# Altium integrated library TI Audio CODEC.IntLib: 199 symbols (part 10 of 17)
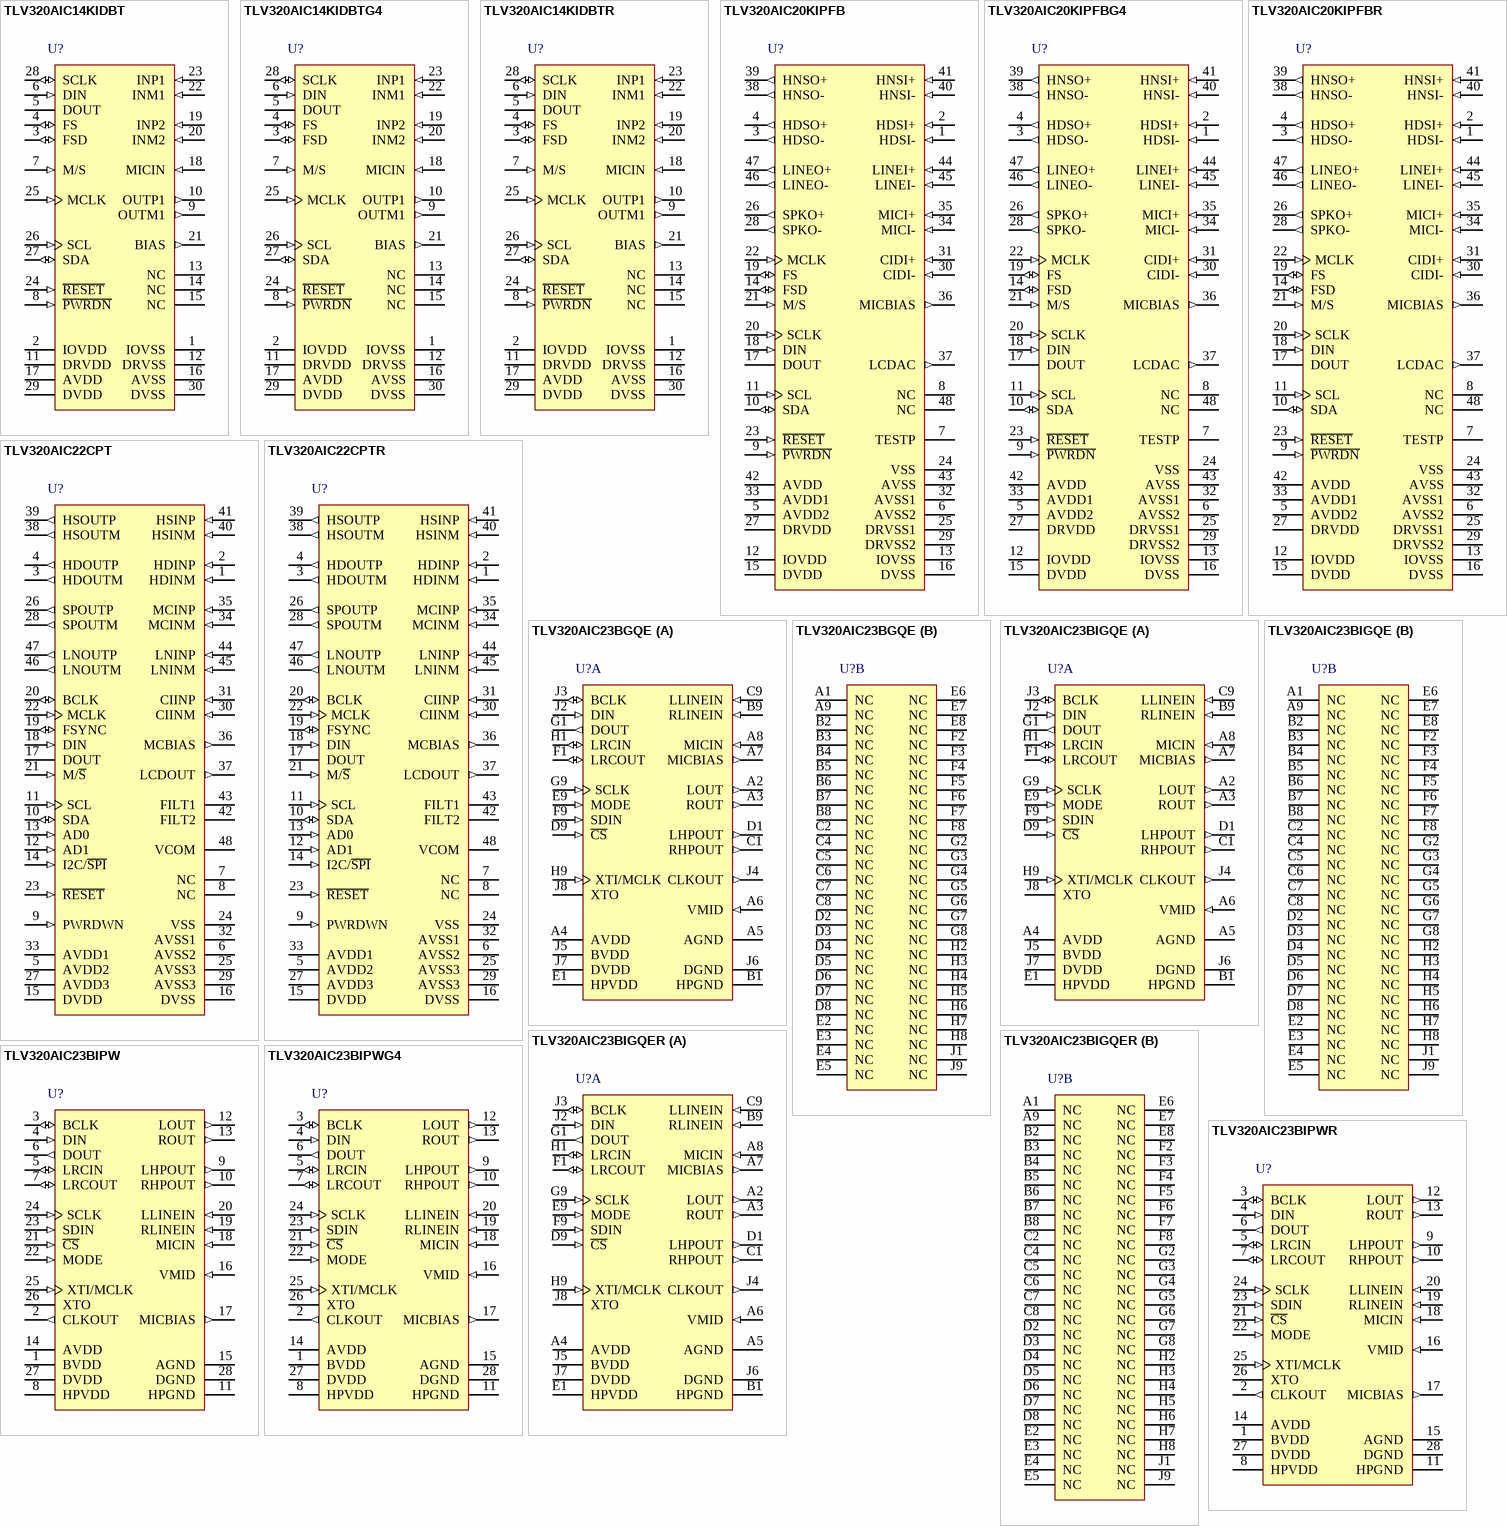
[diagram p22: symbols TLV320AIC14KIDBT to TLV320AIC23BIPWR]

## TLV320AIC14KIDBTG4
designator U?
Low-Power Mono Voice Band CODEC with 1 ADC and 1 DAC, 92 dB DAC SNR, -40 to 85 degC, 30 -pin TSSOP (DBT), Green (RoHS & no Sb/Br); Manufacturer: Texas Instruments; PartNumber: TLV320AIC14KIDBTG4; # ADCs (typ): 1; Battery Powered: TRUE; Control Interface: I2C, S2C; DAC SNR: 92; Digital Audio Interfaces: DSP, SMART TDM; Sampling Rate (Max) (kHz): 26; DatasheetVersion: SLWS115E; PackageVersion: Sep-2005; PackageReference: DBT30; PackageDescription: 30-Pin Thin Shrink Small Outline Package 0.5 mm Pitch; Supplier 1: Digi-Key; Supplier Part Number 1: TLV320AIC14KIDBTG4-ND; Supplier 2: Newark; Supplier Part Number 2: 67K8537; Supplier 3: Mouser; Supplier Part Number 3: 595-TLV320AIC14KIDG4; # DACs: 1; Mounting Technology: Surface Mount; Code_JEDEC: MO-153; ComponentLink1Description: Datasheet; ComponentLink1URL: http://www.ti.com/general/docs/lit/getliterature.tsp?genericPartNumber=TLV320AIC14K&fileType=pdf
footprint DBT30_N (TSSOP, 30-Leads, Body 7.8x4.4mm, Pitch 0.5mm, IPC Medium Density)
footprint DBT30_L (TSSOP, 30-Leads, Body 7.8x4.4mm, Pitch 0.5mm, IPC High Density)
footprint DBT30_M (TSSOP, 30-Leads, Body 7.8x4.4mm, Pitch 0.5mm, IPC Low Density)
pins: 1 IOVSS (power) "Digital I/O ground", 2 IOVDD (power) "Digital I/O power supply", 3 FSD (io) "Frame sync delayed output. The FSD output synchronizes a slave device to the frame sync of the master device. FSD is applied to the slave FS input and is the same duration as the master FS signal. This pin must be pulled low (See Datasheet)", 4 FS (io) "Frame sync. When FS goes low, DIN begins receiving data bits and DOUT begins transmitting data bits. In master mode, FS is internally generated. In slave mode, FS is externally generated.", 5 DOUT (hiz) "Data output. DOUT transmits the ADC output bits and registers data,and is synchronized to SCLK and FS. Data is sent out at the rising edge of SCLK. Outside data/control frame, DOUT is put in 3-state.", 6 DIN (in) "Data input. DIN receives the DAC input data and register data from the external DSP (digital signal processor) and is synchronized to SCLK  and FS. Data is latched at the falling edge of SCLK.", 7 M/S (in) "Master/slave select input. When M/S is high, the device is the master,and when low it is a slave.", 8 ~{PWRDN} (in) "Power down. When P\W\R\D\N\ is pulled low, the device goes into a power-down mode, the serial interface is disabled, and most of the high-speed clocks are disabled. However, all the register values are sustained and the (See Datasheet)", 9 OUTM1 (out) "Inverting output of the DAC. OUTM1 is functionally identical with and complementary to OUTP1. This differential output can drive a maximum load of 600 W. This output can also be used alone for single-ended operation.", 10 OUTP1 (out) "Noninverting output of the DAC. This differential output can drive a maximum load of 600 W. This output can also be used alone for single-ended operation.", 11 DRVDD (power) "Analog power supply for the 16-W drivers OUTP2 and OUTP3", 12 DRVSS (power) "Analog ground for the 16-W drivers OUTP2 and OUTP3", 13 NC "No connection", 14 NC "No connection", 15 NC "No connection", 16 AVSS (power) "Analog ground", 17 AVDD (power) "Analog power supply", 18 MICIN (in) "MIC preamplifier input. It must be connected to AVSS if not used.", 19 INP2 (in) "Noninverting analog input 2. It must be connected to AVSS if not used.", 20 INM2 (in) "Inverting analog input 2. It must be connected to AVSS if not used.", 21 BIAS (out) "Bias output voltage is software selectable between 1.35 V and 2.35 V.Its output current is 5 mA.", 22 INM1 (in) "Inverting analog input 1. It must be connected to AVSS if not used.", 23 INP1 (in) "Noninverting analog input 1. It must be connected to AVSS if not used.", 24 ~{RESET} (in) "Hardware reset. The reset function is provided to initialize all of the internal registers to their default values. The serial port is configured to the default state accordingly.", 25 MCLK (in) "Master clock. MCLK derives the internal clocks of the sigma-delta analog interface circuit.", 26 SCL (in) "Programmable host port (I2C or S2C) clock input.", 27 SDA (io) "Programmable host port (I2C or S2C) data line.", 28 SCLK (io) "Shift clock. SCLK signal clocks serial data into DIN and out of DOUT during the frame-sync interval. When configured as an output (M/S high), SCLK is generated internally by multiplying the frame-sync signal frequency by 16 (See Datasheet)", 29 DVDD (power) "Digital power supply", 30 DVSS (power) "Digital ground"

## TLV320AIC14KIDBTR
designator U?
Low-Power Mono Voice Band CODEC with 1 ADC and 1 DAC, 92 dB DAC SNR, -40 to 85 degC, 30-pin TSSOP (DBT), Green (RoHS & no Sb/Br); Manufacturer: Texas Instruments; PartNumber: TLV320AIC14KIDBTR; # ADCs (typ): 1; Battery Powered: TRUE; Control Interface: I2C, S2C; DAC SNR: 92; Digital Audio Interfaces: DSP, SMART TDM; Sampling Rate (Max) (kHz): 26; DatasheetVersion: SLWS115E; PackageVersion: Sep-2005; PackageReference: DBT30; PackageDescription: 30-Pin Thin Shrink Small Outline Package 0.5 mm Pitch; Supplier 1: Digi-Key; Supplier Part Number 1: TLV320AIC14KIDBTR-ND; Supplier 2: Newark; Supplier Part Number 2: 63K6492; Supplier 3: Mouser; Supplier Part Number 3: 595-TLV320AIC14KIBTR; # DACs: 1; Mounting Technology: Surface Mount; Code_JEDEC: MO-153; ComponentLink1Description: Datasheet; ComponentLink1URL: http://www.ti.com/general/docs/lit/getliterature.tsp?genericPartNumber=TLV320AIC14K&fileType=pdf
footprint DBT30_N (TSSOP, 30-Leads, Body 7.8x4.4mm, Pitch 0.5mm, IPC Medium Density)
footprint DBT30_L (TSSOP, 30-Leads, Body 7.8x4.4mm, Pitch 0.5mm, IPC High Density)
footprint DBT30_M (TSSOP, 30-Leads, Body 7.8x4.4mm, Pitch 0.5mm, IPC Low Density)
pins: 1 IOVSS (power) "Digital I/O ground", 2 IOVDD (power) "Digital I/O power supply", 3 FSD (io) "Frame sync delayed output. The FSD output synchronizes a slave device to the frame sync of the master device. FSD is applied to the slave FS input and is the same duration as the master FS signal. This pin must be pulled low (See Datasheet)", 4 FS (io) "Frame sync. When FS goes low, DIN begins receiving data bits and DOUT begins transmitting data bits. In master mode, FS is internally generated. In slave mode, FS is externally generated.", 5 DOUT (hiz) "Data output. DOUT transmits the ADC output bits and registers data,and is synchronized to SCLK and FS. Data is sent out at the rising edge of SCLK. Outside data/control frame, DOUT is put in 3-state.", 6 DIN (in) "Data input. DIN receives the DAC input data and register data from the external DSP (digital signal processor) and is synchronized to SCLK  and FS. Data is latched at the falling edge of SCLK.", 7 M/S (in) "Master/slave select input. When M/S is high, the device is the master,and when low it is a slave.", 8 ~{PWRDN} (in) "Power down. When P\W\R\D\N\ is pulled low, the device goes into a power-down mode, the serial interface is disabled, and most of the high-speed clocks are disabled. However, all the register values are sustained and the (See Datasheet)", 9 OUTM1 (out) "Inverting output of the DAC. OUTM1 is functionally identical with and complementary to OUTP1. This differential output can drive a maximum load of 600 W. This output can also be used alone for single-ended operation.", 10 OUTP1 (out) "Noninverting output of the DAC. This differential output can drive a maximum load of 600 W. This output can also be used alone for single-ended operation.", 11 DRVDD (power) "Analog power supply for the 16-W drivers OUTP2 and OUTP3", 12 DRVSS (power) "Analog ground for the 16-W drivers OUTP2 and OUTP3", 13 NC "No connection", 14 NC "No connection", 15 NC "No connection", 16 AVSS (power) "Analog ground", 17 AVDD (power) "Analog power supply", 18 MICIN (in) "MIC preamplifier input. It must be connected to AVSS if not used.", 19 INP2 (in) "Noninverting analog input 2. It must be connected to AVSS if not used.", 20 INM2 (in) "Inverting analog input 2. It must be connected to AVSS if not used.", 21 BIAS (out) "Bias output voltage is software selectable between 1.35 V and 2.35 V.Its output current is 5 mA.", 22 INM1 (in) "Inverting analog input 1. It must be connected to AVSS if not used.", 23 INP1 (in) "Noninverting analog input 1. It must be connected to AVSS if not used.", 24 ~{RESET} (in) "Hardware reset. The reset function is provided to initialize all of the internal registers to their default values. The serial port is configured to the default state accordingly.", 25 MCLK (in) "Master clock. MCLK derives the internal clocks of the sigma-delta analog interface circuit.", 26 SCL (in) "Programmable host port (I2C or S2C) clock input.", 27 SDA (io) "Programmable host port (I2C or S2C) data line.", 28 SCLK (io) "Shift clock. SCLK signal clocks serial data into DIN and out of DOUT during the frame-sync interval. When configured as an output (M/S high), SCLK is generated internally by multiplying the frame-sync signal frequency by 16 (See Datasheet)", 29 DVDD (power) "Digital power supply", 30 DVSS (power) "Digital ground"

## TLV320AIC20KIPFB
designator U?
Low-Power Stereo Voice Band CODEC with 8-ohm Speaker Amplifier, 1 ADC and 1 DAC, 92 dB DAC SNR, -40 to 85 degC, 48-pin TQFP (PFB), Green (RoHS & no Sb/Br); Manufacturer: Texas Instruments; PartNumber: TLV320AIC20KIPFB; # ADCs (typ): 1; Additional Features: 8 Ohm Speaker Amplifier; Battery Powered: TRUE; Control Interface: I2C, S2C; DAC SNR: 92; Digital Audio Interfaces: DSP, SMART TDM; Sampling Rate (Max) (kHz): 26; Speaker Amp Output Power(Max)(W): 0.25; Speaker Amp Type: Class-AB; DatasheetVersion: SLAS363D; PackageVersion: Jan-1998; PackageReference: PFB48; PackageDescription: 48-Pin Thin Plastic Quad Flat Pack 0.5 mm Pitch; Supplier 1: Digi-Key; Supplier Part Number 1: 296-17965-ND; Supplier 2: Newark; Supplier Part Number 2: 28K5675; Supplier 3: Mouser; Supplier Part Number 3: 595-TLV320AIC20KIPFB; # DACs: 1; Headphone Driver: TRUE; Speaker Amp Ouputs: 1; Mounting Technology: Surface Mount; Code_JEDEC: MS-026; ComponentLink1Description: Datasheet; ComponentLink1URL: http://www.ti.com/general/docs/lit/getliterature.tsp?genericPartNumber=TLV320AIC20K&fileType=pdf
footprint PFB48_N (Thin QFP, 48-Leads, Body 7x7mm, Pitch 0.5mm, IPC Medium Density)
footprint PFB48_L (Thin QFP, 48-Leads, Body 7x7mm, Pitch 0.5mm, IPC High Density)
footprint PFB48_M (Thin QFP, 48-Leads, Body 7x7mm, Pitch 0.5mm, IPC Low Density)
pins: 1 HDSI- (in) "Head-set input. The Head-set input can be treated similar to the Line-input pins", 2 HDSI+ (in) "Head-set input. The Head-set input can be treated similar to the Line-input pins", 3 HDSO- (out) "150-ohm output", 4 HDSO+ (out) "150-ohm output", 5 AVDD2 (power) "Analog power supply", 6 AVSS2 (power) "Analog ground", 7 TESTP (power) "Test pin. Should be connected to digital ground.", 8 NC "Not connected", 9 ~{PWRDN} (in) "Power down", 10 SDA (io) "I2C/S2C data", 11 SCL (in) "I2C/S2C clock", 12 IOVDD (power) "I/O power supply", 13 IOVSS (power) "I/O ground", 14 FSD (io) "Frame sync delayed", 15 DVDD (power) "Digital supply (1.8 V)", 16 DVSS (power) "Digital ground", 17 DOUT (hiz) "Data OUT", 18 DIN (in) "Data IN", 19 FS (io) "Frame sync", 20 SCLK (in) "Serial clock", 21 M/S (in) "Master slave select applied to CODEC1 only. CODEC2 is always a slave.", 22 MCLK (in) "Master clock", 23 ~{RESET} (in) "Reset", 24 VSS (power) "Device ground. Typically this should be connected to the Analog Ground.", 25 DRVSS1 (power) "Driver ground", 26 SPKO+ (out) "8-ohm output", 27 DRVDD (power) "Driver supply", 28 SPKO- (out) "8-ohm output", 29 DRVSS2 (power) "Driver ground", 30 CIDI- (in) "Caller-ID input. The Caller-ID input can be treated similar to the Line-input pins", 31 CIDI+ (in) "Caller-ID input. The Caller-ID input can be treated similar to the Line-input pins", 32 AVSS1 (power) "Analog ground", 33 AVDD1 (power) "Analog supply", 34 MICI- (in) "Microphone input", 35 MICI+ (in) "Microphone input", 36 MICBIAS (out) "Microphone bias", 37 LCDAC (out) "6-Bit DAC output may be used to drive LCDAC", 38 HNSO- (out) "150-ohm output", 39 HNSO+ (out) "150-ohm output", 40 HNSI- (in) "Hand-set input. The Hand-set input can be treated similar to the Line-input pins", 41 HNSI+ (in) "Hand-set input. The Hand-set input can be treated similar to the Line-input pins", 42 AVDD (power) "Analog supply", 43 AVSS (power) "Analog ground", 44 LINEI+ (in) "Line input", 45 LINEI- (in) "Line input", 46 LINEO- (out) "600-ohm output", 47 LINEO+ (out) "600-ohm output", 48 NC "Not connected"

## TLV320AIC20KIPFBG4
designator U?
Low-Power Stereo Voice Band CODEC with 8-ohm Speaker Amplifier, 1 ADC and 1 DAC, 92 dB DAC SNR, -40 to 85 degC, 48-pin TQFP (PFB), Green (RoHS & no Sb/Br); Manufacturer: Texas Instruments; PartNumber: TLV320AIC20KIPFBG4; # ADCs (typ): 1; Additional Features: 8 Ohm Speaker Amplifier; Battery Powered: TRUE; Control Interface: I2C, S2C; DAC SNR: 92; Digital Audio Interfaces: DSP, SMART TDM; Sampling Rate (Max) (kHz): 26; Speaker Amp Output Power(Max)(W): 0.25; Speaker Amp Type: Class-AB; DatasheetVersion: SLAS363D; PackageVersion: Jan-1998; PackageReference: PFB48; PackageDescription: 48-Pin Thin Plastic Quad Flat Pack 0.5 mm Pitch; Supplier 1: Digi-Key; Supplier Part Number 1: TLV320AIC20KIPFBG4-ND; Supplier 2: Newark; Supplier Part Number 2: 67K8539; Supplier 3: Mouser; Supplier Part Number 3: 595-TLV320AIC20KIPG4; # DACs: 1; Speaker Amp Ouputs: 1; Mounting Technology: Surface Mount; Code_JEDEC: MS-026; ComponentLink1Description: Datasheet; ComponentLink1URL: http://www.ti.com/general/docs/lit/getliterature.tsp?genericPartNumber=TLV320AIC20K&fileType=pdf
footprint PFB48_N (Thin QFP, 48-Leads, Body 7x7mm, Pitch 0.5mm, IPC Medium Density)
footprint PFB48_L (Thin QFP, 48-Leads, Body 7x7mm, Pitch 0.5mm, IPC High Density)
footprint PFB48_M (Thin QFP, 48-Leads, Body 7x7mm, Pitch 0.5mm, IPC Low Density)
pins: 1 HDSI- (in) "Head-set input. The Head-set input can be treated similar to the Line-input pins", 2 HDSI+ (in) "Head-set input. The Head-set input can be treated similar to the Line-input pins", 3 HDSO- (out) "150-ohm output", 4 HDSO+ (out) "150-ohm output", 5 AVDD2 (power) "Analog power supply", 6 AVSS2 (power) "Analog ground", 7 TESTP (power) "Test pin. Should be connected to digital ground.", 8 NC "Not connected", 9 ~{PWRDN} (in) "Power down", 10 SDA (io) "I2C/S2C data", 11 SCL (in) "I2C/S2C clock", 12 IOVDD (power) "I/O power supply", 13 IOVSS (power) "I/O ground", 14 FSD (io) "Frame sync delayed", 15 DVDD (power) "Digital supply (1.8 V)", 16 DVSS (power) "Digital ground", 17 DOUT (hiz) "Data OUT", 18 DIN (in) "Data IN", 19 FS (io) "Frame sync", 20 SCLK (in) "Serial clock", 21 M/S (in) "Master slave select applied to CODEC1 only. CODEC2 is always a slave.", 22 MCLK (in) "Master clock", 23 ~{RESET} (in) "Reset", 24 VSS (power) "Device ground. Typically this should be connected to the Analog Ground.", 25 DRVSS1 (power) "Driver ground", 26 SPKO+ (out) "8-ohm output", 27 DRVDD (power) "Driver supply", 28 SPKO- (out) "8-ohm output", 29 DRVSS2 (power) "Driver ground", 30 CIDI- (in) "Caller-ID input. The Caller-ID input can be treated similar to the Line-input pins", 31 CIDI+ (in) "Caller-ID input. The Caller-ID input can be treated similar to the Line-input pins", 32 AVSS1 (power) "Analog ground", 33 AVDD1 (power) "Analog supply", 34 MICI- (in) "Microphone input", 35 MICI+ (in) "Microphone input", 36 MICBIAS (out) "Microphone bias", 37 LCDAC (out) "6-Bit DAC output may be used to drive LCDAC", 38 HNSO- (out) "150-ohm output", 39 HNSO+ (out) "150-ohm output", 40 HNSI- (in) "Hand-set input. The Hand-set input can be treated similar to the Line-input pins", 41 HNSI+ (in) "Hand-set input. The Hand-set input can be treated similar to the Line-input pins", 42 AVDD (power) "Analog supply", 43 AVSS (power) "Analog ground", 44 LINEI+ (in) "Line input", 45 LINEI- (in) "Line input", 46 LINEO- (out) "600-ohm output", 47 LINEO+ (out) "600-ohm output", 48 NC "Not connected"

## TLV320AIC20KIPFBR
designator U?
Low-Power Stereo Voice Band CODEC with 8-ohm Speaker Amplifier, 1 ADC and 1 DAC, 92 dB DAC SNR, -40 to 85 degC, 48-pin TQFP (PFB), Green (RoHS & no Sb/Br); Manufacturer: Texas Instruments; PartNumber: TLV320AIC20KIPFBR; # ADCs (typ): 1; Additional Features: 8 Ohm Speaker Amplifier; Battery Powered: TRUE; Control Interface: I2C, S2C; DAC SNR: 92; Digital Audio Interfaces: DSP, SMART TDM; Sampling Rate (Max) (kHz): 26; Speaker Amp Output Power(Max)(W): 0.25; Speaker Amp Type: Class-AB; DatasheetVersion: SLAS363D; PackageVersion: Jan-1998; PackageReference: PFB48; PackageDescription: 48-Pin Thin Plastic Quad Flat Pack 0.5 mm Pitch; Supplier 1: Digi-Key; Supplier Part Number 1: TLV320AIC20KIPFBR-ND; Supplier 2: Newark; Supplier Part Number 2: 28K5676; Supplier 3: Mouser; Supplier Part Number 3: 595-TLV320AIC20KIPBR; # DACs: 1; Speaker Amp Ouputs: 1; Mounting Technology: Surface Mount; Code_JEDEC: MS-026; ComponentLink1Description: Datasheet; ComponentLink1URL: http://www.ti.com/general/docs/lit/getliterature.tsp?genericPartNumber=TLV320AIC20K&fileType=pdf
footprint PFB48_N (Thin QFP, 48-Leads, Body 7x7mm, Pitch 0.5mm, IPC Medium Density)
footprint PFB48_L (Thin QFP, 48-Leads, Body 7x7mm, Pitch 0.5mm, IPC High Density)
footprint PFB48_M (Thin QFP, 48-Leads, Body 7x7mm, Pitch 0.5mm, IPC Low Density)
pins: 1 HDSI- (in) "Head-set input. The Head-set input can be treated similar to the Line-input pins", 2 HDSI+ (in) "Head-set input. The Head-set input can be treated similar to the Line-input pins", 3 HDSO- (out) "150-ohm output", 4 HDSO+ (out) "150-ohm output", 5 AVDD2 (power) "Analog power supply", 6 AVSS2 (power) "Analog ground", 7 TESTP (power) "Test pin. Should be connected to digital ground.", 8 NC "Not connected", 9 ~{PWRDN} (in) "Power down", 10 SDA (io) "I2C/S2C data", 11 SCL (in) "I2C/S2C clock", 12 IOVDD (power) "I/O power supply", 13 IOVSS (power) "I/O ground", 14 FSD (io) "Frame sync delayed", 15 DVDD (power) "Digital supply (1.8 V)", 16 DVSS (power) "Digital ground", 17 DOUT (hiz) "Data OUT", 18 DIN (in) "Data IN", 19 FS (io) "Frame sync", 20 SCLK (in) "Serial clock", 21 M/S (in) "Master slave select applied to CODEC1 only. CODEC2 is always a slave.", 22 MCLK (in) "Master clock", 23 ~{RESET} (in) "Reset", 24 VSS (power) "Device ground. Typically this should be connected to the Analog Ground.", 25 DRVSS1 (power) "Driver ground", 26 SPKO+ (out) "8-ohm output", 27 DRVDD (power) "Driver supply", 28 SPKO- (out) "8-ohm output", 29 DRVSS2 (power) "Driver ground", 30 CIDI- (in) "Caller-ID input. The Caller-ID input can be treated similar to the Line-input pins", 31 CIDI+ (in) "Caller-ID input. The Caller-ID input can be treated similar to the Line-input pins", 32 AVSS1 (power) "Analog ground", 33 AVDD1 (power) "Analog supply", 34 MICI- (in) "Microphone input", 35 MICI+ (in) "Microphone input", 36 MICBIAS (out) "Microphone bias", 37 LCDAC (out) "6-Bit DAC output may be used to drive LCDAC", 38 HNSO- (out) "150-ohm output", 39 HNSO+ (out) "150-ohm output", 40 HNSI- (in) "Hand-set input. The Hand-set input can be treated similar to the Line-input pins", 41 HNSI+ (in) "Hand-set input. The Hand-set input can be treated similar to the Line-input pins", 42 AVDD (power) "Analog supply", 43 AVSS (power) "Analog ground", 44 LINEI+ (in) "Line input", 45 LINEI- (in) "Line input", 46 LINEO- (out) "600-ohm output", 47 LINEO+ (out) "600-ohm output", 48 NC "Not connected"

## TLV320AIC22CPT
designator U?
Dual VoIP CODEC with 1 ADC and 1 DAC, 78 dB DAC SNR, -40 to 85 degC, 48-pin LQFP (PT), Green (RoHS & no Sb/Br); Manufacturer: Texas Instruments; PartNumber: TLV320AIC22CPT; # ADCs (typ): 1; Battery Powered: TRUE; Control Interface: SPI, I2C; DAC SNR: 78; Digital Audio Interfaces: DSP; Sampling Rate (Max) (kHz): 16; DatasheetVersion: SPAS041B; PackageVersion: revC, Nov-1996; PackageReference: PT48; PackageDescription: 48-Pin Plastic Quad Flat Pack, 7 x 7 mm Body, 0.5 mm Pitch; Supplier 1: Digi-Key; Supplier Part Number 1: 296-13661-ND; Supplier 2: Digi-Key; Supplier Part Number 2: 296-13661-1-ND; Supplier 3: Farnell; Supplier Part Number 3: 1544023; Supplier 4: Newark; Supplier Part Number 4: 94M9898; Supplier 5: Newark; Supplier Part Number 5: 02E7161; Supplier 6: Mouser; Supplier Part Number 6: 595-TLV320AIC22CPT; # DACs: 1; Mounting Technology: Surface Mount; Code_JEDEC: MS-026; ComponentLink1Description: Datasheet; ComponentLink1URL: http://www.ti.com/general/docs/lit/getliterature.tsp?genericPartNumber=TLV320AIC22C&fileType=pdf
footprint PT48_N (Thin QFP, 48-Leads, Body 7x7mm, Pitch 0.5mm, IPC Medium Density)
footprint PT48_L (Thin QFP, 48-Leads, Body 7x7mm, Pitch 0.5mm, IPC High Density)
footprint PT48_M (Thin QFP, 48-Leads, Body 7x7mm, Pitch 0.5mm, IPC Low Density)
pins: 1 HDINM (in) "Headset amplifier analog inverting input. A connection between HDIN and HDOUT occurs, with selected echo gain, unless the echo gain is muted.", 2 HDINP (in) "Headset amplifier analog noninverting input.", 3 HDOUTM (out) "Inverting headset output. The HDOUTM terminal, together with the HDOUTP terminal form the differential output. With HDOUTP, a 150-ohm load can be driven differentially. HDOUTM can be used alone for single-ended operation.", 4 HDOUTP (out) "Noninverting headset output. HDOUTP can be used alone for single-ended operation. With HDOUTM, a 150-ohm load can be driven differentially.", 5 AVDD2 (power) "Analog power supply. Connect to AVDD1.", 6 AVSS2 (power) "Analog ground. Connect to AVSS1.", 7 NC "Reserved. Leave unconnected.", 8 NC "Reserved. Leave unconnected.", 9 PWRDWN (in) "Power down. PWRDWN is active high and when PWRDWN is pulled high, the device goes into a power-down mode that disables the output drivers and most of the high-speed clocks. The serial interface and I2C interface are enabled. (See Datasheet)", 10 SDA (io) "Bidirectional control data I/O line for the I2C interface. Data is clocked into and out of the device by SCL. Tie this terminal to DVDD when not used.", 11 SCL (in) "SCL is the serial control interface clock for the I2C interface and is used to clock control bits into and out of the device through the SDA terminal. Tie this terminal to DVDD when not used.", 12 AD1 (in) "Address. In I2C mode, AD1 is used with AD0 to form the lower two bits of the 7-bit I2C chip address. The upper five bits are fixed at 11100. AD1 is used in conjunction with AD0 to assign the two time slots for the codec in (See Datasheet)", 13 AD0 (in) "Address. In I2C mode, AD0 is used with AD1 to form the lower two bits of the 7-bit I2C chip address. The upper five bits are fixed at 11100. AD0 is used in conjunction with AD1 to assign the two time slots for the codec in (See Datasheet)", 14 I2C/~{SPI} (in) "I2C/serial-port interface select. Setting this terminal high allows the user to program the registers using the I2C interface. A low state configures the serial interface for control register programming during normal data (See Datasheet)", 15 DVDD (power) "Digital power supply", 16 DVSS (power) "Digital ground", 17 DOUT (hiz) "Data output. DOUT transmits the ADC output bits and the register data. It is synchronized to BCLK. Data is transmitted on the rising edge of BCLK in the two time slots that are specified by the AD1 and AD0 bits. DOUT is at (See Datasheet)", 18 DIN (in) "Data input. DIN receives the DAC input data and register data from the external DSP or controller and is synchronized to BCLK. Data is latched on the falling edge of BCLK in the two time slots that are specified by the AD1 (See Datasheet)", 19 FSYNC (io) "Frame synchronization. FSYNC indicates the beginning of a frame and the start of time slot 0. When FSYNC is sampled high on the rising edge of BCLK, the codec receives or transmits data in its specified time slot (specified (See Datasheet)", 20 BCLK (io) "Bit clock. BCLK clocks serial data into DIN and out of DOUT. When configured as an output (master mode), BCLK is generated internally by multiplying the frame-synchronization signal frequency by 256. When configured as an (See Datasheet)", 21 M/~{S} (in) "Master/slave select input. When M/S is high, the device is the master, and when it is low, it is a slave", 22 MCLK (in) "Master clock input. All internal clocks are derived from this clock. This clock typically is 32.768 MHz or 24.576 MHz.", 23 ~{RESET} (in) "Codec device reset. R\E\S\E\T\ initializes all device internal registers to default values when pulled low.", 24 VSS (power) "Internal substrate connection. VSS should be tied to AVSS1 and AVSS2.", 25 AVSS3 (power) "Analog ground for 8-ohm speaker driver. AVSS3 can be connected to AVSS1 and AVSS2. Because this signal requires large amounts of current, it is recommended that a separate PCB trace be run to this terminal and connected to (See Datasheet)", 26 SPOUTP (out) "Inverting analog output from 8-ohm speaker amplifier", 27 AVDD3 (power) "Analog power supply for 8-ohm speaker driver. AVDD3 can be connected to AVDD1 and AVDD2. Because this signal requires large amounts of current, it is recommended that a separate PCB trace be run to this terminal and (See Datasheet)", 28 SPOUTM (out) "Noninverting analog output from 8-ohm speaker amplifier", 29 AVSS3 (power) "Analog ground for 8-ohm speaker driver. AVSS3 can be connected to AVSS1 and AVSS2. Because this signal requires large amounts of current, it is recommended that a separate PCB trace be run to this terminal and connected to (See Datasheet)", 30 CIINM (in) "Caller ID amplifier analog inverting input", 31 CIINP (in) "Caller ID amplifier analog noninverting input", 32 AVSS1 (power) "Analog ground. Connect to AVSS2.", 33 AVDD1 (power) "Analog power supply. Connect to AVDD2.", 34 MCINM (in) "Microphone amplifier analog inverting input", 35 MCINP (in) "Microphone amplifier analog noninverting input", 36 MCBIAS (out) "MCBIAS provides a bias voltage and current to operate Electret microphones. The bias voltage is specified across the microphone at 2.5 V.", 37 LCDOUT (out) "4-bit DAC output voltage, programmed through the control interface. LCDOUT can be used to provide the bias voltage for an LCD display.", 38 HSOUTM (out) "Inverting handset output. The HSOUTM terminal, together with the HSOUTP terminal, forms the differential output. With HSOUTP, a 150-ohm load can be driven differentially. HSOUTM can be used alone for single-ended operation.", 39 HSOUTP (out) "Noninverting handset output. With HSOUTM, a 150-ohm load can be driven differentially. HSOUTP can be used alone for single-ended operation.", 40 HSINM (in) "Handset amplifier analog inverting input. A connection between HSIN and HSOUT occurs, with selected echo gain, unless the echo gain is muted.", 41 HSINP (in) "Handset amplifier analog noninverting input. A connection between the HSIN and HSOUT occurs, with programmed echo gain, unless the echo gain is muted.", 42 FILT2 "Reference filter node. FILT1 and FILT2 provide decoupling of the reference voltage. This reference is 0 V. The optimal capacitor value is 0.1 μF (ceramic) and is connected between FILT1 and FILT2", 43 FILT1 "Reference filter node. FILT1 and FILT2 provide decoupling of the reference voltage. This reference is 2.25 V. The optimal capacitor value is 0.1 μF (ceramic) and is connected between FILT1 and FILT2. FILT1 should not be used (See Datasheet)", 44 LNINP (in) "Line-port amplifier analog noninverting input.", 45 LNINM (in) "Line-port amplifier analog inverting input.", 46 LNOUTM (out) "Inverting line-port output. The LNOUTM terminal, together with the LNOUTP terminal, form the differential output. With LNOUTP, a 600-ohm load can be driven differentially. LNOUTM can be used alone for single-ended operation.", 47 LNOUTP (out) "Noninverting line-port output. With LNOUTM, a 600-ohm load can be driven differentially. LNOUTP can be used alone for single-ended operation.", 48 VCOM "VCOM provides a reference voltage of 1.5 V. The maximum source or sink current at this terminal is 2.5 mA"

## TLV320AIC22CPTR
designator U?
Dual VoIP CODEC with 1 ADC and 1 DAC, 78 dB DAC SNR, -40 to 85 degC, 48-pin LQFP (PT), Green (RoHS & no Sb/Br); Manufacturer: Texas Instruments; PartNumber: TLV320AIC22CPTR; # ADCs (typ): 1; Battery Powered: TRUE; Control Interface: SPI, I2C; DAC SNR: 78; Digital Audio Interfaces: DSP; Sampling Rate (Max) (kHz): 16; DatasheetVersion: SPAS041B; PackageVersion: revC, Nov-1996; PackageReference: PT48; PackageDescription: 48-Pin Plastic Quad Flat Pack, 7 x 7 mm Body, 0.5 mm Pitch; Supplier 1: Digi-Key; Supplier Part Number 1: TLV320AIC22CPTR-ND; Supplier 2: Newark; Supplier Part Number 2: 02E7162; Supplier 3: Mouser; Supplier Part Number 3: 595-TLV320AIC22CPTR; # DACs: 1; Mounting Technology: Surface Mount; Code_JEDEC: MS-026; ComponentLink1Description: Datasheet; ComponentLink1URL: http://www.ti.com/general/docs/lit/getliterature.tsp?genericPartNumber=TLV320AIC22C&fileType=pdf
footprint PT48_N (Thin QFP, 48-Leads, Body 7x7mm, Pitch 0.5mm, IPC Medium Density)
footprint PT48_L (Thin QFP, 48-Leads, Body 7x7mm, Pitch 0.5mm, IPC High Density)
footprint PT48_M (Thin QFP, 48-Leads, Body 7x7mm, Pitch 0.5mm, IPC Low Density)
pins: 1 HDINM (in) "Headset amplifier analog inverting input. A connection between HDIN and HDOUT occurs, with selected echo gain, unless the echo gain is muted.", 2 HDINP (in) "Headset amplifier analog noninverting input.", 3 HDOUTM (out) "Inverting headset output. The HDOUTM terminal, together with the HDOUTP terminal form the differential output. With HDOUTP, a 150-ohm load can be driven differentially. HDOUTM can be used alone for single-ended operation.", 4 HDOUTP (out) "Noninverting headset output. HDOUTP can be used alone for single-ended operation. With HDOUTM, a 150-ohm load can be driven differentially.", 5 AVDD2 (power) "Analog power supply. Connect to AVDD1.", 6 AVSS2 (power) "Analog ground. Connect to AVSS1.", 7 NC "Reserved. Leave unconnected.", 8 NC "Reserved. Leave unconnected.", 9 PWRDWN (in) "Power down. PWRDWN is active high and when PWRDWN is pulled high, the device goes into a power-down mode that disables the output drivers and most of the high-speed clocks. The serial interface and I2C interface are enabled. (See Datasheet)", 10 SDA (io) "Bidirectional control data I/O line for the I2C interface. Data is clocked into and out of the device by SCL. Tie this terminal to DVDD when not used.", 11 SCL (in) "SCL is the serial control interface clock for the I2C interface and is used to clock control bits into and out of the device through the SDA terminal. Tie this terminal to DVDD when not used.", 12 AD1 (in) "Address. In I2C mode, AD1 is used with AD0 to form the lower two bits of the 7-bit I2C chip address. The upper five bits are fixed at 11100. AD1 is used in conjunction with AD0 to assign the two time slots for the codec in (See Datasheet)", 13 AD0 (in) "Address. In I2C mode, AD0 is used with AD1 to form the lower two bits of the 7-bit I2C chip address. The upper five bits are fixed at 11100. AD0 is used in conjunction with AD1 to assign the two time slots for the codec in (See Datasheet)", 14 I2C/~{SPI} (in) "I2C/serial-port interface select. Setting this terminal high allows the user to program the registers using the I2C interface. A low state configures the serial interface for control register programming during normal data (See Datasheet)", 15 DVDD (power) "Digital power supply", 16 DVSS (power) "Digital ground", 17 DOUT (hiz) "Data output. DOUT transmits the ADC output bits and the register data. It is synchronized to BCLK. Data is transmitted on the rising edge of BCLK in the two time slots that are specified by the AD1 and AD0 bits. DOUT is at (See Datasheet)", 18 DIN (in) "Data input. DIN receives the DAC input data and register data from the external DSP or controller and is synchronized to BCLK. Data is latched on the falling edge of BCLK in the two time slots that are specified by the AD1 (See Datasheet)", 19 FSYNC (io) "Frame synchronization. FSYNC indicates the beginning of a frame and the start of time slot 0. When FSYNC is sampled high on the rising edge of BCLK, the codec receives or transmits data in its specified time slot (specified (See Datasheet)", 20 BCLK (io) "Bit clock. BCLK clocks serial data into DIN and out of DOUT. When configured as an output (master mode), BCLK is generated internally by multiplying the frame-synchronization signal frequency by 256. When configured as an (See Datasheet)", 21 M/~{S} (in) "Master/slave select input. When M/S is high, the device is the master, and when it is low, it is a slave", 22 MCLK (in) "Master clock input. All internal clocks are derived from this clock. This clock typically is 32.768 MHz or 24.576 MHz.", 23 ~{RESET} (in) "Codec device reset. R\E\S\E\T\ initializes all device internal registers to default values when pulled low.", 24 VSS (power) "Internal substrate connection. VSS should be tied to AVSS1 and AVSS2.", 25 AVSS3 (power) "Analog ground for 8-ohm speaker driver. AVSS3 can be connected to AVSS1 and AVSS2. Because this signal requires large amounts of current, it is recommended that a separate PCB trace be run to this terminal and connected to (See Datasheet)", 26 SPOUTP (out) "Inverting analog output from 8-ohm speaker amplifier", 27 AVDD3 (power) "Analog power supply for 8-ohm speaker driver. AVDD3 can be connected to AVDD1 and AVDD2. Because this signal requires large amounts of current, it is recommended that a separate PCB trace be run to this terminal and (See Datasheet)", 28 SPOUTM (out) "Noninverting analog output from 8-ohm speaker amplifier", 29 AVSS3 (power) "Analog ground for 8-ohm speaker driver. AVSS3 can be connected to AVSS1 and AVSS2. Because this signal requires large amounts of current, it is recommended that a separate PCB trace be run to this terminal and connected to (See Datasheet)", 30 CIINM (in) "Caller ID amplifier analog inverting input", 31 CIINP (in) "Caller ID amplifier analog noninverting input", 32 AVSS1 (power) "Analog ground. Connect to AVSS2.", 33 AVDD1 (power) "Analog power supply. Connect to AVDD2.", 34 MCINM (in) "Microphone amplifier analog inverting input", 35 MCINP (in) "Microphone amplifier analog noninverting input", 36 MCBIAS (out) "MCBIAS provides a bias voltage and current to operate Electret microphones. The bias voltage is specified across the microphone at 2.5 V.", 37 LCDOUT (out) "4-bit DAC output voltage, programmed through the control interface. LCDOUT can be used to provide the bias voltage for an LCD display.", 38 HSOUTM (out) "Inverting handset output. The HSOUTM terminal, together with the HSOUTP terminal, forms the differential output. With HSOUTP, a 150-ohm load can be driven differentially. HSOUTM can be used alone for single-ended operation.", 39 HSOUTP (out) "Noninverting handset output. With HSOUTM, a 150-ohm load can be driven differentially. HSOUTP can be used alone for single-ended operation.", 40 HSINM (in) "Handset amplifier analog inverting input. A connection between HSIN and HSOUT occurs, with selected echo gain, unless the echo gain is muted.", 41 HSINP (in) "Handset amplifier analog noninverting input. A connection between the HSIN and HSOUT occurs, with programmed echo gain, unless the echo gain is muted.", 42 FILT2 "Reference filter node. FILT1 and FILT2 provide decoupling of the reference voltage. This reference is 0 V. The optimal capacitor value is 0.1 μF (ceramic) and is connected between FILT1 and FILT2", 43 FILT1 "Reference filter node. FILT1 and FILT2 provide decoupling of the reference voltage. This reference is 2.25 V. The optimal capacitor value is 0.1 μF (ceramic) and is connected between FILT1 and FILT2. FILT1 should not be used (See Datasheet)", 44 LNINP (in) "Line-port amplifier analog noninverting input.", 45 LNINM (in) "Line-port amplifier analog inverting input.", 46 LNOUTM (out) "Inverting line-port output. The LNOUTM terminal, together with the LNOUTP terminal, form the differential output. With LNOUTP, a 600-ohm load can be driven differentially. LNOUTM can be used alone for single-ended operation.", 47 LNOUTP (out) "Noninverting line-port output. With LNOUTM, a 600-ohm load can be driven differentially. LNOUTP can be used alone for single-ended operation.", 48 VCOM "VCOM provides a reference voltage of 1.5 V. The maximum source or sink current at this terminal is 2.5 mA"

## TLV320AIC23BGQE
designator U?
Low-Power Stereo CODEC with HP Amplifier, 1 ADC and 1 DAC, 100 dB DAC SNR, 0 to 70 degC, 80-pin BGA MICROSTAR JUNIOR (GQE); Manufacturer: Texas Instruments; PartNumber: TLV320AIC23BGQE; # ADCs (typ): 1; Battery Powered: TRUE; Control Interface: SPI, I2C; DAC SNR: 100; Digital Audio Interfaces: L, R, I2S, DSP; Sampling Rate (Max) (kHz): 96; DatasheetVersion: SLWS106H; PackageVersion: Oct-2005; PackageReference: GQE80; PackageDescription: 80-Ball Plastic Ball Grid Array, 5 x 5 mm Body, 0.5 mm Pitch; Supplier 1: Digi-Key; Supplier Part Number 1: 296-13992-5-ND; Supplier 2: Farnell; Supplier Part Number 2: 1510099; Supplier 3: Newark; Supplier Part Number 3: 22H1263; Supplier 4: Mouser; Supplier Part Number 4: 595-TLV320AIC23BGQE; # DACs: 1; Mounting Technology: Surface Mount; Code_JEDEC: MO-225; ComponentLink1Description: Datasheet; ComponentLink1URL: http://www.ti.com/general/docs/lit/getliterature.tsp?genericPartNumber=TLV320AIC23B&fileType=pdf
footprint GQE80 (BGA, 80-Leads, Body 5x5mm, Pitch 0.5mm)
part A pins: A2 LOUT (out) "Left stereo mixer-channel line output. Nominal output level is 1.0 VRMS.", A3 ROUT (out) "Right stereo mixer-channel line output. Nominal output level is 1.0 VRMS.", A4 AVDD (power) "Analog supply input. Voltage level is 3.3 V nominal.", A5 AGND (power) "Analog supply return", A6 VMID (in) "Midrail voltage decoupling input. 10-uF and 0.1-uF capacitors should be connected in parallel to this terminal for noise filtering. Voltage level is 1/2 AVDD nominal.", A7 MICBIAS (out) "Buffered low-noise-voltage output suitable for electret-microphone-capsule biasing. Voltage level is 3/4 AVDD nominal.", A8 MICIN (in) "Buffered amplifier input suitable for use with electret-microphone capsules. Without external resistors a default gain of 5 is provided. See Section 2.3.1.2 for details.", B1 HPGND (power) "Analog headphone amplifier supply return", B9 RLINEIN (in) "Right stereo-line input channel. Nominal 0-dB input level is 1 VRMS. Gain of -34.5 dB to 12 dB is provided in 1.5-dB steps.", C1 RHPOUT (out) "Right stereo mixer-channel amplified headphone output. Nominal 0-dB output level is 1 VRMS. Gain of -73 dB to 6 dB is provided in 1-dB steps.", C9 LLINEIN (in) "Left stereo-line input channel. Nominal 0-dB input level is 1 VRMS. Gain of -34.5 dB to 12 dB is provided in 1.5-dB steps.", D1 LHPOUT (out) "Left stereo mixer-channel amplified headphone output. Nominal 0-dB output level is 1 VRMS. Gain of -73 dB to 6 dB is provided in 1-dB steps.", D9 ~{CS} (in) "Control port input latch/address select. For SPI control mode this input acts as the data latch control. For 2-wire control mode this input defines the seventh bit in the device address field. See Section 3.1 for details.", E1 HPVDD (power) "Analog headphone amplifier supply input. Voltage level is 3.3 V nominal.", E9 MODE (in) "Serial-interface-mode input. See Section 3.1 for details.", F1 LRCOUT (io) "I2S ADC-word clock signal. In audio master mode, the AIC23B generates this framing signal and sends it to the DSP. In audio slave mode, the signal is generated by the DSP.", F9 SDIN (in) "Control-port serial-data input. For SPI and 2-wire control modes this is the serial-data input and also is used to select the control protocol after reset. See Section 3.1 for details.", G1 DOUT (out) "I2S format serial data output from the sigma-delta stereo ADC", G9 SCLK (in) "Control-port serial-data clock. For SPI and 2-wire control modes this is the serial-clock input. See Section 3.1 for details.", H1 LRCIN (io) "I2S DAC-word clock signal. In audio master mode, the AIC23B generates this framing signal and sends it to the DSP. In audio slave mode, the signal is generated by the DSP.", H9 XTI/MCLK (in) "Crystal or external-clock input. Used for derivation of all internal clocks on the AIC23B.", J2 DIN (in) "I2S format serial data input to the sigma-delta stereo DAC", J3 BCLK (io) "I2S serial-bit clock. In audio master mode, the AIC23B generates this signal and sends it to the DSP. In audio slave mode, the signal is generated by the DSP.", J4 CLKOUT (out) "Clock output. This is a buffered version of the XTI input and is available in 1X or 1/2X frequencies of XTI. Bit 07 in the sample rate control register controls frequency selection.", J5 BVDD (power) "Buffer supply input. Voltage range is from 2.7 V to 3.6 V.", J6 DGND (power) "Digital supply return", J7 DVDD (power) "Digital supply input. Voltage range is 1.4 V to 3.6 V.", J8 XTO "Crystal output. Connect to external crystal for applications where the AIC23B is the audio timing master. Not used in applications where external clock source is used."
part B pins: A1 NC "Not Used--No internal connection", A9 NC "Not Used--No internal connection", B2 NC "Not Used--No internal connection", B3 NC "Not Used--No internal connection", B4 NC "Not Used--No internal connection", B5 NC "Not Used--No internal connection", B6 NC "Not Used--No internal connection", B7 NC "Not Used--No internal connection", B8 NC "Not Used--No internal connection", C2 NC "Not Used--No internal connection", C4 NC "Not Used--No internal connection", C5 NC "Not Used--No internal connection", C6 NC "Not Used--No internal connection", C7 NC "Not Used--No internal connection", C8 NC "Not Used--No internal connection", D2 NC "Not Used--No internal connection", D3 NC "Not Used--No internal connection", D4 NC "Not Used--No internal connection", D5 NC "Not Used--No internal connection", D6 NC "Not Used--No internal connection", D7 NC "Not Used--No internal connection", D8 NC "Not Used--No internal connection", E2 NC "Not Used--No internal connection", E3 NC "Not Used--No internal connection", E4 NC "Not Used--No internal connection", E5 NC "Not Used--No internal connection", E6 NC "Not Used--No internal connection", E7 NC "Not Used--No internal connection", E8 NC "Not Used--No internal connection", F2 NC "Not Used--No internal connection", F3 NC "Not Used--No internal connection", F4 NC "Not Used--No internal connection", F5 NC "Not Used--No internal connection", F6 NC "Not Used--No internal connection", F7 NC "Not Used--No internal connection", F8 NC "Not Used--No internal connection", G2 NC "Not Used--No internal connection", G3 NC "Not Used--No internal connection", G4 NC "Not Used--No internal connection", G5 NC "Not Used--No internal connection", G6 NC "Not Used--No internal connection", G7 NC "Not Used--No internal connection", G8 NC "Not Used--No internal connection", H2 NC "Not Used--No internal connection", H3 NC "Not Used--No internal connection", H4 NC "Not Used--No internal connection", H5 NC "Not Used--No internal connection", H6 NC "Not Used--No internal connection", H7 NC "Not Used--No internal connection", H8 NC "Not Used--No internal connection", J1 NC "Not Used--No internal connection", J9 NC "Not Used--No internal connection"

## TLV320AIC23BIGQE
designator U?
Low-Power Stereo CODEC with HP Amplifier, 1 ADC and 1 DAC, 100 dB DAC SNR, -40 to 85 degC, 80-pin BGAMICROSTAR JUNIOR (GQE); Manufacturer: Texas Instruments; PartNumber: TLV320AIC23BIGQE; # ADCs (typ): 1; Battery Powered: TRUE; Control Interface: SPI, I2C; DAC SNR: 100; Digital Audio Interfaces: L, R, I2S, DSP; Sampling Rate (Max) (kHz): 96; DatasheetVersion: SLWS106H; PackageVersion: Oct-2005; PackageReference: GQE80; PackageDescription: 80-Ball Plastic Ball Grid Array, 5 x 5 mm Body, 0.5 mm Pitch; Supplier 1: Digi-Key; Supplier Part Number 1: 296-15030-ND; Supplier 2: Newark; Supplier Part Number 2: 61H5493; Supplier 3: Mouser; Supplier Part Number 3: 595-TLV320AIC23BIGQE; # DACs: 1; Mounting Technology: Surface Mount; Code_JEDEC: MO-225; ComponentLink1Description: Datasheet; ComponentLink1URL: http://www.ti.com/general/docs/lit/getliterature.tsp?genericPartNumber=TLV320AIC23B&fileType=pdf
footprint GQE80 (BGA, 80-Leads, Body 5x5mm, Pitch 0.5mm)
part A pins: A2 LOUT (out) "Left stereo mixer-channel line output. Nominal output level is 1.0 VRMS.", A3 ROUT (out) "Right stereo mixer-channel line output. Nominal output level is 1.0 VRMS.", A4 AVDD (power) "Analog supply input. Voltage level is 3.3 V nominal.", A5 AGND (power) "Analog supply return", A6 VMID (in) "Midrail voltage decoupling input. 10-uF and 0.1-uF capacitors should be connected in parallel to this terminal for noise filtering. Voltage level is 1/2 AVDD nominal.", A7 MICBIAS (out) "Buffered low-noise-voltage output suitable for electret-microphone-capsule biasing. Voltage level is 3/4 AVDD nominal.", A8 MICIN (in) "Buffered amplifier input suitable for use with electret-microphone capsules. Without external resistors a default gain of 5 is provided. See Section 2.3.1.2 for details.", B1 HPGND (power) "Analog headphone amplifier supply return", B9 RLINEIN (in) "Right stereo-line input channel. Nominal 0-dB input level is 1 VRMS. Gain of -34.5 dB to 12 dB is provided in 1.5-dB steps.", C1 RHPOUT (out) "Right stereo mixer-channel amplified headphone output. Nominal 0-dB output level is 1 VRMS. Gain of -73 dB to 6 dB is provided in 1-dB steps.", C9 LLINEIN (in) "Left stereo-line input channel. Nominal 0-dB input level is 1 VRMS. Gain of -34.5 dB to 12 dB is provided in 1.5-dB steps.", D1 LHPOUT (out) "Left stereo mixer-channel amplified headphone output. Nominal 0-dB output level is 1 VRMS. Gain of -73 dB to 6 dB is provided in 1-dB steps.", D9 ~{CS} (in) "Control port input latch/address select. For SPI control mode this input acts as the data latch control. For 2-wire control mode this input defines the seventh bit in the device address field. See Section 3.1 for details.", E1 HPVDD (power) "Analog headphone amplifier supply input. Voltage level is 3.3 V nominal.", E9 MODE (in) "Serial-interface-mode input. See Section 3.1 for details.", F1 LRCOUT (io) "I2S ADC-word clock signal. In audio master mode, the AIC23B generates this framing signal and sends it to the DSP. In audio slave mode, the signal is generated by the DSP.", F9 SDIN (in) "Control-port serial-data input. For SPI and 2-wire control modes this is the serial-data input and also is used to select the control protocol after reset. See Section 3.1 for details.", G1 DOUT (out) "I2S format serial data output from the sigma-delta stereo ADC", G9 SCLK (in) "Control-port serial-data clock. For SPI and 2-wire control modes this is the serial-clock input. See Section 3.1 for details.", H1 LRCIN (io) "I2S DAC-word clock signal. In audio master mode, the AIC23B generates this framing signal and sends it to the DSP. In audio slave mode, the signal is generated by the DSP.", H9 XTI/MCLK (in) "Crystal or external-clock input. Used for derivation of all internal clocks on the AIC23B.", J2 DIN (in) "I2S format serial data input to the sigma-delta stereo DAC", J3 BCLK (io) "I2S serial-bit clock. In audio master mode, the AIC23B generates this signal and sends it to the DSP. In audio slave mode, the signal is generated by the DSP.", J4 CLKOUT (out) "Clock output. This is a buffered version of the XTI input and is available in 1X or 1/2X frequencies of XTI. Bit 07 in the sample rate control register controls frequency selection.", J5 BVDD (power) "Buffer supply input. Voltage range is from 2.7 V to 3.6 V.", J6 DGND (power) "Digital supply return", J7 DVDD (power) "Digital supply input. Voltage range is 1.4 V to 3.6 V.", J8 XTO "Crystal output. Connect to external crystal for applications where the AIC23B is the audio timing master. Not used in applications where external clock source is used."
part B pins: A1 NC "Not Used--No internal connection", A9 NC "Not Used--No internal connection", B2 NC "Not Used--No internal connection", B3 NC "Not Used--No internal connection", B4 NC "Not Used--No internal connection", B5 NC "Not Used--No internal connection", B6 NC "Not Used--No internal connection", B7 NC "Not Used--No internal connection", B8 NC "Not Used--No internal connection", C2 NC "Not Used--No internal connection", C4 NC "Not Used--No internal connection", C5 NC "Not Used--No internal connection", C6 NC "Not Used--No internal connection", C7 NC "Not Used--No internal connection", C8 NC "Not Used--No internal connection", D2 NC "Not Used--No internal connection", D3 NC "Not Used--No internal connection", D4 NC "Not Used--No internal connection", D5 NC "Not Used--No internal connection", D6 NC "Not Used--No internal connection", D7 NC "Not Used--No internal connection", D8 NC "Not Used--No internal connection", E2 NC "Not Used--No internal connection", E3 NC "Not Used--No internal connection", E4 NC "Not Used--No internal connection", E5 NC "Not Used--No internal connection", E6 NC "Not Used--No internal connection", E7 NC "Not Used--No internal connection", E8 NC "Not Used--No internal connection", F2 NC "Not Used--No internal connection", F3 NC "Not Used--No internal connection", F4 NC "Not Used--No internal connection", F5 NC "Not Used--No internal connection", F6 NC "Not Used--No internal connection", F7 NC "Not Used--No internal connection", F8 NC "Not Used--No internal connection", G2 NC "Not Used--No internal connection", G3 NC "Not Used--No internal connection", G4 NC "Not Used--No internal connection", G5 NC "Not Used--No internal connection", G6 NC "Not Used--No internal connection", G7 NC "Not Used--No internal connection", G8 NC "Not Used--No internal connection", H2 NC "Not Used--No internal connection", H3 NC "Not Used--No internal connection", H4 NC "Not Used--No internal connection", H5 NC "Not Used--No internal connection", H6 NC "Not Used--No internal connection", H7 NC "Not Used--No internal connection", H8 NC "Not Used--No internal connection", J1 NC "Not Used--No internal connection", J9 NC "Not Used--No internal connection"